# EAGLE library part TS-VPC_LINK (library ElectricNoodleBox)
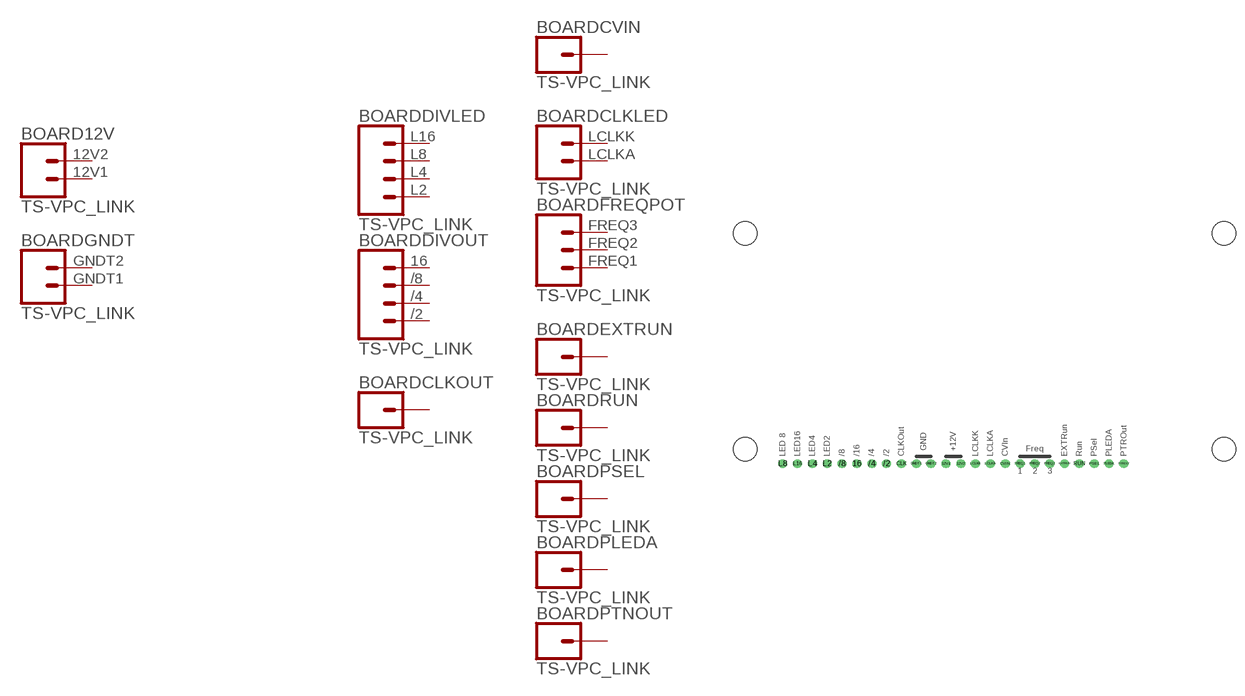
[diagram p18: symbol with the pads of TS-VPC; footprint TS-VPC]

Designator prefix BOARD; gates 12V=CONN_02 DIVLED=CONN_04 DIVOUT=CONN_04 CLKOUT=CONN_01 CLKLED=CONN_02 FREQPOT=CONN_03 EXTRUN=CONN_01 RUN=CONN_01 PSEL=CONN_01 PLEDA=CONN_01 PTNOUT=CONN_01 CVIN=CONN_01 GNDT=CONN_02

## TS-VPC_LINK  [TS-VPC]
12V1  12V:1  pas
12V2  12V:2  pas
16  DIVOUT:4  pas
/2  DIVOUT:1  pas
/4  DIVOUT:2  pas
/8  DIVOUT:3  pas
CLK  CLKOUT:1  pas
CVIN  CVIN:1  pas
EXTRUN  EXTRUN:1  pas
FREQ1  FREQPOT:1  pas
FREQ2  FREQPOT:2  pas
FREQ3  FREQPOT:3  pas
GNDT1  GNDT:1  pas
GNDT2  GNDT:2  pas
L2  DIVLED:1  pas
L4  DIVLED:2  pas
L8  DIVLED:3  pas
L16  DIVLED:4  pas
LCLKA  CLKLED:1  pas
LCLKK  CLKLED:2  pas
PLEDA  PLEDA:1  pas
PSEL  PSEL:1  pas
PTRNOUT  PTNOUT:1  pas
RUN  RUN:1  pas

## Footprint TS-VPC (pad centres in mm)
drill 1.016: 12V1 39.37,2.54; 12V2 41.91,2.54; 16 24.13,2.54; /2 29.21,2.54; /4 26.67,2.54; /8 21.59,2.54; CLK 31.75,2.54; CVIN 49.53,2.54; EXTRUN 59.69,2.54; FREQ1 52.07,2.54; FREQ2 54.61,2.54; FREQ3 57.15,2.54; GNDT1 34.29,2.54; GNDT2 36.83,2.54; L2 19.05,2.54; L4 16.51,2.54; L8 11.43,2.54; L16 13.97,2.54; LCLKA 46.99,2.54; LCLKK 44.45,2.54; PLEDA 67.31,2.54; PSEL 64.77,2.54; PTRNOUT 69.85,2.54; RUN 62.23,2.54
hole 4 at 5,5
hole 4 at 5,42
hole 4 at 87,5
hole 4 at 87,42